# Altium integrated library SimonLIBRARY.IntLib: 19 symbols
Pins are listed as number, name and electrical type; pins without a type are passive.

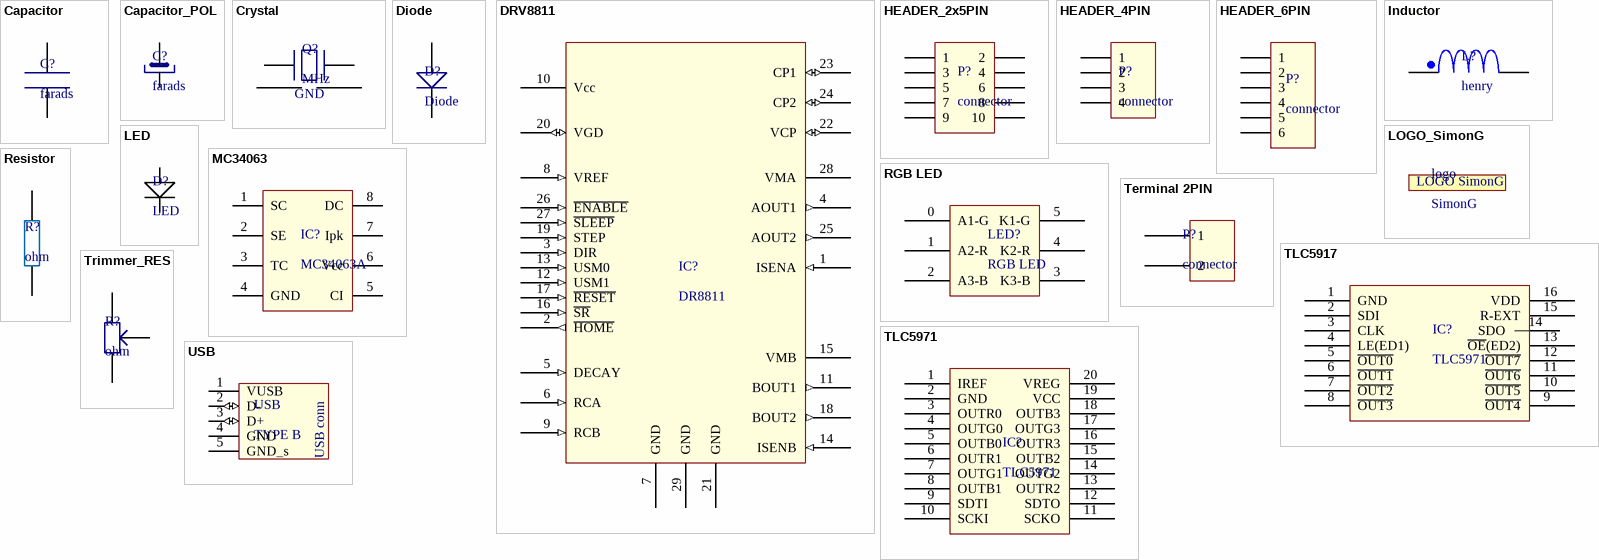
[diagram p0: symbols Capacitor to USB]

## Capacitor
designator C?, comment farads
footprint CAP_1206
footprint CAP_0805
pins: 1, 2

## Capacitor_POL
designator C?, comment farads
footprint CAP_POL_6mm
pins: 1 (power), 2 (power)

## Crystal
designator Q?, comment MHz
footprint CRYSTAL_SMD
pins: 1, 2, 3, 4
text: GND

## Diode
designator D?
footprint DIODE_SMA (Molded Diode, 2-Leads, Body 4,3x2,6mm, IPC Medium Density)
pins: 1, 2

## DRV8811
designator IC?, comment DR8811
footprint HTSSOP28
pins: 1 ISENA (in) "Bridge A Isense", 2 ~{HOME} (out) "Home position", 3 DIR (in) "Direction input", 4 AOUT1 (out) "Bridge A output 1", 5 DECAY (in) "Decay mode input", 6 RCA (in) "Bridge A blanking and off time adj", 7 GND (power) "Device ground", 8 VREF (in) "Current set input", 9 RCB (in) "Bridge B blanking and off time adj", 10 Vcc (power) "Logic supply voltage", 11 BOUT1 (out) "Bridge B output 1", 12 USM1 (in) "Microstep mode 1", 13 USM0 (in) "Microstep mode 0", 14 ISENB (in) "Bridge B Isense", 15 VMB (power) "Bridge B power supply", 16 ~{SR} (in) "Sync. rect. enable input", 17 ~{RESET} (in) "Reset input", 18 BOUT2 (out) "Bridge B output 2", 19 STEP (in) "Step input", 20 VGD (io) "Low-side gate drive voltage", 21 GND (power) "Device ground", 22 VCP (io) "High-side gate drive voltage", 23 CP1 (io) "Charge pump flying capacitor", 24 CP2 (io) "Charge pump flying capacitor", 25 AOUT2 (out) "Bridge A output 2", 26 ~{ENABLE} (in) "Enable input", 27 ~{SLEEP} (in) "Sleep mode input", 28 VMA (power) "Bridge A power supply", 29 GND (power) "Device ground"

## HEADER_2x5PIN
designator P?, comment connector
footprint HEAD_POL_2x5PIN
footprint HEAD_POL_2x5PIN_L
pins: 1, 2, 3, 4, 5, 6, 7, 8, 9, 10

## HEADER_4PIN
designator P?, comment connector
footprint HEAD_POL_4PIN
pins: 1, 2, 3, 4

## HEADER_6PIN
designator P?, comment connector
footprint HEAD_POL_6PIN
pins: 1, 2, 3, 4, 5, 6

## Inductor
designator L?, comment henry
footprint InductorSMD
footprint IND_0805
footprint IND_1206 (Chip Inductor, 2-Leads, Body 3,3x1,7mm, IPC Medium Density)
pins: 1 (power), 2 (power)

## LED
designator D?
footprint LED_0805
pins: 1 (power) "Anode", 2 (power) "Katode"

## LOGO_SimonG
designator logo, comment SimonG
footprint LOGO_SimonG
text: LOGO SimonG

## MC34063
designator IC?, comment MC34063A
footprint SOIC8 (SOIC, 8-Leads, Body 5,0x4,0mm (max), Pitch 1,27mm, IPC Medium Density)
pins: 1 SC (power), 2 SE (power), 3 TC (power), 4 GND (power), 5 CI (power), 6 Vcc (power), 7 Ipk (power), 8 DC (power)

## Resistor
designator R?, comment ohm
footprint RES_0805
pins: 1, 2

## RGB LED
designator LED?
pins: 0 A1-G, 1 A2-R, 2 A3-B, 3 K3-B, 4 K2-R, 5 K1-G

## Terminal 2PIN
designator P?, comment connector
footprint TERMINAL_2PIN
pins: 1 (power) "Katode", 2 (power) "Katode"

## TLC5917
designator IC?, comment TLC5971
footprint SOP16 (SOP, 16-Leads, Body 10,0x3,8mm (max), Pitch 1,27mm, IPC Medium Density)
pins: 1 GND, 2 SDI, 3 CLK, 4 LE(ED1), 5 ~{OUT0}, 6 ~{OUT1}, 7 ~{OUT2}, 8 ~{OUT3}, 9 ~{OUT4}, 10 ~{OUT5}, 11 ~{OUT6}, 12 ~{OUT7}, 13 ~{OE}(ED2), 14 SDO, 15 R-EXT, 16 VDD

## TLC5971
designator IC?
footprint HTSSOP20 (SOP, 20-Leads, Body 6,6x4,5mm (max), Pitch 0,65mm, IPC Medium Density)
pins: 1 IREF, 2 GND, 3 OUTR0, 4 OUTG0, 5 OUTB0, 6 OUTR1, 7 OUTG1, 8 OUTB1, 9 SDTI, 10 SCKI, 11 SCKO, 12 SDTO, 13 OUTR2, 14 OUTG2, 15 OUTB2, 16 OUTR3, 17 OUTG3, 18 OUTB3, 19 VCC, 20 VREG

## Trimmer_RES
designator R?, comment ohm
footprint RES_TRIMMER_SMD
pins: 1, 2, 3

## USB
designator USB, comment TYPE B
footprint USB_TypeB
pins: 1 VUSB (power), 2 D- (io), 3 D+ (io), 4 GND (power), 5 GND_s (power)
text: USB conn